# Altium footprint library JMPKG.PcbLib: 337 footprints (part 1 of 22)
Each footprint in its own frame and in the unit in brackets; x right, y up, seen from the top. Pads: shape width x height; smd on the part's side, far side on the other; paste and mask are expansions set on the pad; w line width, h text height; cw(c..) or ccw(c..) is an arc to the next point about the centre after c.
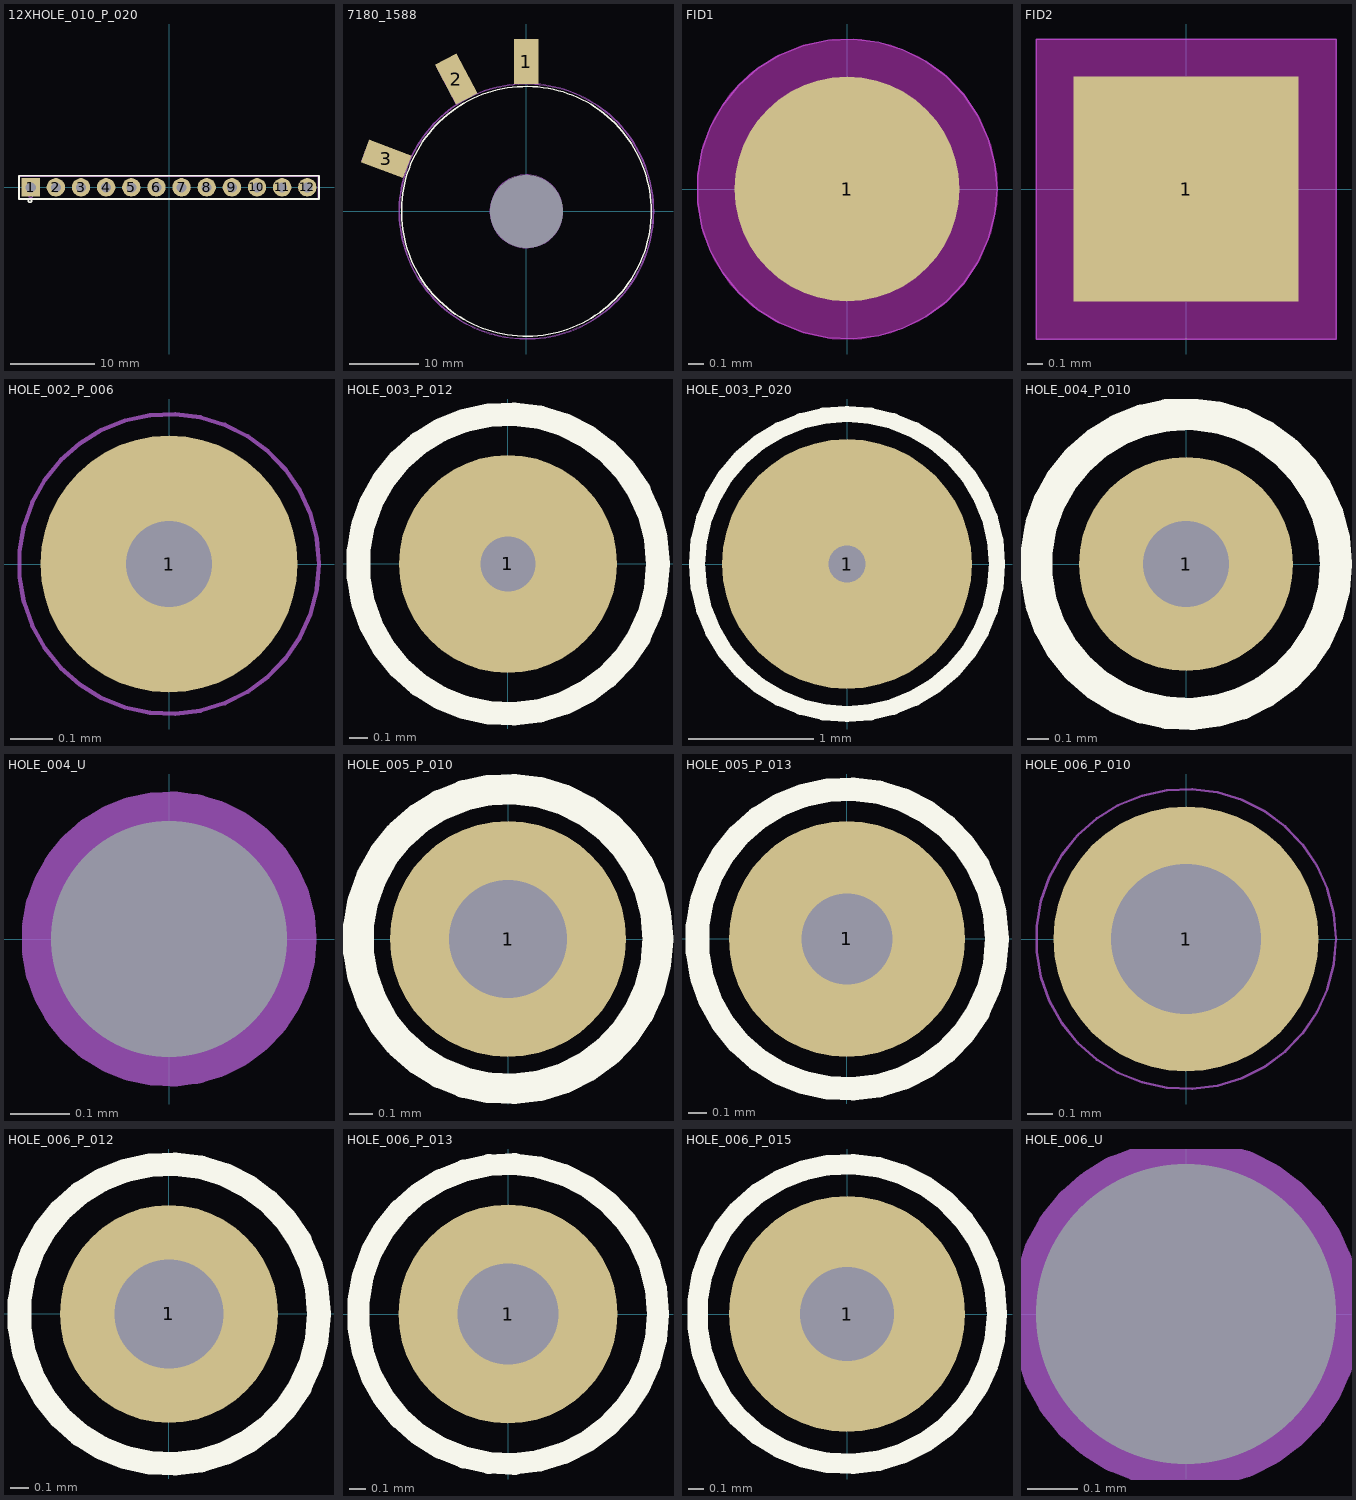
[diagram p0: the footprints below, top view; thin cyan lines are the x and y axes]

## 12XHOLE_010_P_020 [mm]
pads (12):
  rect 2.2x2.2 hole 1.2 mask+0.05: 1(-16.5,0)
  round 2.2 hole 1.2 mask+0.05: 2(-13.5,0) 3(-10.5,0) 4(-7.5,0) 5(-4.5,0) 6(-1.5,0) 7(1.5,0) 8(4.5,0) 9(7.5,0) 10(10.5,0) 11(13.5,0) 12(16.5,0)
Top Overlay:
  circle w0.2: c-16.6,-1.6 r0.2
  lines w0.2: -17.9,-1.4 17.9,-1.4 17.9,1.4 -17.9,1.4 -17.9,-1.4
Mechanical 15:
  circle w0.01: c-16.5,0 r0.5
  circle w0.01: c-13.5,0 r0.5
  circle w0.01: c-10.5,0 r0.5
  circle w0.01: c-7.5,0 r0.5
  circle w0.01: c-4.5,0 r0.5
  circle w0.01: c-1.5,0 r0.5
  circle w0.01: c1.5,0 r0.5
  circle w0.01: c4.5,0 r0.5
  circle w0.01: c7.5,0 r0.5
  circle w0.01: c10.5,0 r0.5
  circle w0.01: c13.5,0 r0.5
  circle w0.01: c16.5,0 r0.5
  circle w0.01: c-16.5,-0.9 r0.3
  lines w0.01: -17.8,-1.3 17.8,-1.3 17.8,1.3 -17.8,1.3 -17.8,-1.3
Mechanical 16:
  circle w0.01: c-16.5,0 r0.5
  circle w0.01: c-13.5,0 r0.5
  circle w0.01: c-10.5,0 r0.5
  circle w0.01: c-7.5,0 r0.5
  circle w0.01: c-4.5,0 r0.5
  circle w0.01: c-1.5,0 r0.5
  circle w0.01: c1.5,0 r0.5
  circle w0.01: c4.5,0 r0.5
  circle w0.01: c7.5,0 r0.5
  circle w0.01: c10.5,0 r0.5
  circle w0.01: c13.5,0 r0.5
  circle w0.01: c16.5,0 r0.5
Multi-Layer:
  text "Value" at -3.588,-0.275 h0.6
Mechanical 20:
  lines w0.01: -17.9,-1.4 17.9,-1.4 17.9,1.4 -17.9,1.4 -17.9,-1.4

## 7180_1588 [mm]
pads (4):
  rect 3.5x6.5 smd mask+0.05: 1(0,21.59)
  rect 6.5x3.5 smd rot 118 mask+0.05: 2(-10.136,19.063)
  rect 6.5x3.5 smd rot 159.5 mask+0.05: 3(-20.223,7.561)
  round 0 hole 10.5 unplated: HL1(0,0)
Top Overlay:
  circle w0.2: c0,0 r18
Mechanical 15:
  circle w0.01: c0,0 r18.3
  circle w0.01: c0,0 r5.25
  lines w0.01: -23.7,7.2 -22.58,10.197 -16.772,8.027 -17.892,5.029 -23.7,7.2 ; -13,21 -10.179,22.51 -7.252,17.045 -10.074,15.534 -13,21 ; -1.6,18.5 1.6,18.5 1.6,24.7 -1.6,24.7 -1.6,18.5
Mechanical 16:
  circle w0.01: c0,0 r5.25
Mechanical 20:
  circle w0.01: c0,0 r18.4

## FID1 [mm]
height 1
pads (1):
  round 1.5 smd mask+0.25: 1(0,0)
L1-Top Layer keep-out:
  region: 1,0 1,0.098 0.962,0.292 0.886,0.474 0.777,0.637 0.637,0.777 0.474,0.886 0.292,0.962 0.098,1 0,1 -0.098,1 -0.292,0.962 -0.474,0.886 -0.637,0.777 -0.777,0.637 -0.886,0.474 -0.962,0.292 -1,0.098 -1,0 -1,-0.098 -0.962,-0.292 -0.886,-0.474 -0.777,-0.637 -0.637,-0.777 -0.474,-0.886 -0.292,-0.962 -0.098,-1 0,-1 0.098,-1 0.292,-0.962 0.474,-0.886 0.637,-0.777 0.777,-0.637 0.886,-0.474 0.962,-0.292 1,-0.098
Mechanical 20:
  circle w0.01: c0,0 r1

## FID2 [mm]
height 1
pads (1):
  rect 1.5x1.5 smd mask+0.25: 1(0,0)
L1-Top Layer keep-out:
  region: -1,1 1,1 1,-1 -1,-1
Mechanical 20:
  lines w0.01: -1,-1 1,-1 1,1 -1,1 -1,-1

## HOLE_002_P_006 [mm]
pads (1):
  round 0.6 hole 0.2 mask+0.05: 1(0,0)
Mechanical 15:
  circle w0.01: c0,0 r0.1
Mechanical 16:
  circle w0.01: c0,0 r0.1
Mechanical 20:
  circle w0.01: c0,0 r0.35

## HOLE_003_P_012 [mm]
pads (1):
  round 1.2 hole 0.3 mask+0.05: 1(0,0)
Top Overlay:
  circle w0.13: c0,0 r0.826
Drill Drawing:
  circle w0.01: c0,0 r0.15
Mechanical 20:
  circle w0.01: c0,0 r0.826

## HOLE_003_P_020 [mm]
pads (1):
  round 2 hole 0.3 mask+0.05: 1(0,0)
Top Overlay:
  circle w0.13: c0,0 r1.2
Drill Drawing:
  circle w0.01: c0,0 r0.15
Mechanical 20:
  circle w0.01: c0,0 r1.2

## HOLE_004_P_010 [mm]
pads (1):
  round 1 hole 0.4 mask+0.05: 1(0,0)
Top Overlay:
  circle w0.15: c0,0 r0.7
Mechanical 15:
  circle w0.1: c0,0 r0.2
Mechanical 16:
  circle w0.1: c0,0 r0.2
Mechanical 20:
  circle w0.1: c0,0 r0.7

## HOLE_004_U [mm]
pads (1):
  round 0 hole 0.4 unplated: 1(0,0)
Mechanical 15:
  circle w0.1: c0,0 r0.2
Mechanical 16:
  circle w0.1: c0,0 r0.2

## HOLE_005_P_010 [mm]
pads (1):
  round 1 hole 0.5 mask+0.05: 1(0,0)
Top Overlay:
  circle w0.13: c0,0 r0.635
Mechanical 15:
  circle w0.01: c0,0 r0.635
Drill Drawing:
  circle w0.01: c0,0 r0.25
Mechanical 20:
  circle w0.01: c0,0 r0.635

## HOLE_005_P_013 [mm]
pads (1):
  round 1.3 hole 0.5 mask+0.05: 1(0,0)
Top Overlay:
  circle w0.13: c0,0 r0.826
Mechanical 15:
  circle w0.01: c0,0 r0.25
Mechanical 16:
  circle w0.01: c0,0 r0.25
Mechanical 20:
  circle w0.01: c0,0 r0.826

## HOLE_006_P_010 [mm]
pads (1):
  round 1.06 hole 0.6 mask+0.05: 1(0,0)
Mechanical 15:
  circle w0.01: c0,0 r0.3
Mechanical 16:
  circle w0.01: c0,0 r0.3
Mechanical 20:
  circle w0.01: c0,0 r0.6

## HOLE_006_P_012 [mm]
pads (1):
  round 1.2 hole 0.6 mask+0.05: 1(0,0)
Top Overlay:
  circle w0.13: c0,0 r0.826
Mechanical 15:
  circle w0.01: c0,0 r0.3
Mechanical 16:
  circle w0.01: c0,0 r0.3
Mechanical 20:
  circle w0.01: c0,0 r0.826

## HOLE_006_P_013 [mm]
pads (1):
  round 1.3 hole 0.6 mask+0.05: 1(0,0)
Top Overlay:
  circle w0.13: c0,0 r0.889
Mechanical 15:
  circle w0.01: c0,0 r0.3
Mechanical 16:
  circle w0.01: c0,0 r0.3
Mechanical 20:
  circle w0.01: c0,0 r0.889

## HOLE_006_P_015 [mm]
pads (1):
  round 1.5 hole 0.6 mask+0.05: 1(0,0)
Top Overlay:
  circle w0.13: c0,0 r0.953
Mechanical 15:
  circle w0.01: c0,0 r0.3
Mechanical 16:
  circle w0.01: c0,0 r0.3
Mechanical 20:
  circle w0.01: c0,0 r0.953

## HOLE_006_U [mm]
pads (1):
  round 0 hole 0.6 unplated: 1(0,0)
Mechanical 15:
  circle w0.1: c0,0 r0.3
Mechanical 16:
  circle w0.1: c0,0 r0.3